# EAGLE library part LTC6801IG#3ZZPBF (library LTC6801IG#3ZZPBF)
Battery Battery Monitor IC Lithium Ion 36-SSOP Source: Datasheet <https://componentsearchengine.com/Datasheets/1/LTC6801IG#3ZZPBF.pdf>
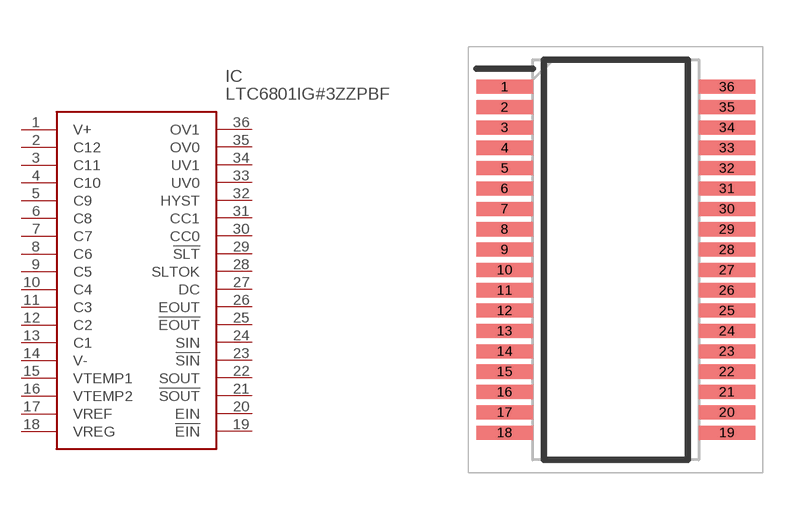
[diagram p0: symbol with the pads of SOP65P780X200-36N; footprint SOP65P780X200-36N]

Designator prefix IC

## LTC6801IG#3ZZPBF (Description: Battery Battery Monitor IC Lithium Ion 36-SSOP; Height: 2mm; Manufacturer_Name: Analog Devices; Manufacturer_Part_Number: LTC6801IG#3ZZPBF; Mouser_Part_Number: 584-LTC6801IG#3ZZPBF; Mouser_Price-Stock: https://www.mouser.com/Search/Refine.aspx?Keyword=584-LTC6801IG%233ZZPBF)  [SOP65P780X200-36N]
1  V+
2  C12
3  C11
4  C10
5  C9
6  C8
7  C7
8  C6
9  C5
10  C4
11  C3
12  C2
13  C1
14  V-
15  VTEMP1
16  VTEMP2
17  VREF
18  VREG
19  !EIN
20  EIN
21  !SOUT
22  SOUT
23  !SIN
24  SIN
25  !EOUT
26  EOUT
27  DC
28  SLTOK
29  !SLT
30  CC0
31  CC1
32  HYST
33  UV0
34  UV1
35  OV0
36  OV1

## Footprint SOP65P780X200-36N (pad centres in mm)
G Package 36-Lead Plastic SSOP (5.3mm)
smd 1.8 x 0.45: 1 -3.55,5.525; 2 -3.55,4.875; 3 -3.55,4.225; 4 -3.55,3.575; 5 -3.55,2.925; 6 -3.55,2.275; 7 -3.55,1.625; 8 -3.55,0.975; 9 -3.55,0.325; 10 -3.55,-0.325; 11 -3.55,-0.975; 12 -3.55,-1.625; 13 -3.55,-2.275; 14 -3.55,-2.925; 15 -3.55,-3.575; 16 -3.55,-4.225; 17 -3.55,-4.875; 18 -3.55,-5.525; 19 3.55,-5.525; 20 3.55,-4.875; 21 3.55,-4.225; 22 3.55,-3.575; 23 3.55,-2.925; 24 3.55,-2.275; 25 3.55,-1.625; 26 3.55,-0.975; 27 3.55,-0.325; 28 3.55,0.325; 29 3.55,0.975; 30 3.55,1.625; 31 3.55,2.275; 32 3.55,2.925; 33 3.55,3.575; 34 3.55,4.225; 35 3.55,4.875; 36 3.55,5.525